# EAGLE library part USB_A_DOUBLE1 (library Dennistries-Josh)
USB A Double Socket USB A Double Height Socket
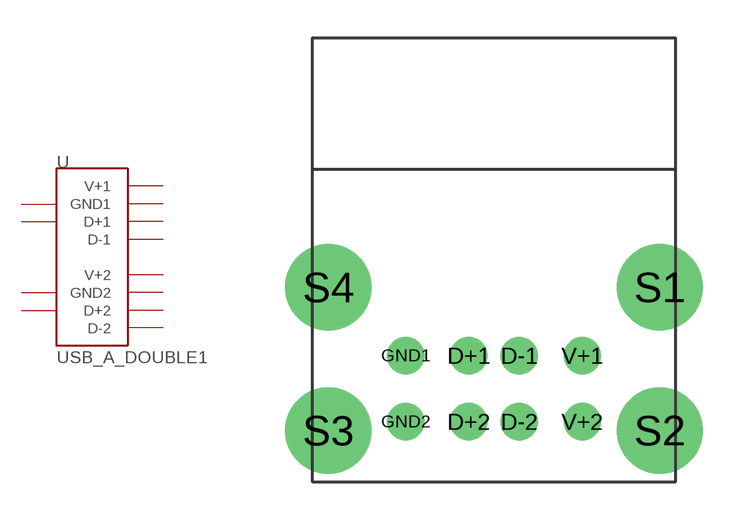
[diagram p10: symbol with the pads of USB_A_DOUBLE1; footprint USB_A_DOUBLE1]

Designator prefix -

## USB_A_DOUBLE1  [USB_A_DOUBLE1]
D+1  D+1
D+2  D+2
D-1  D-1
D-2  D-2
GND1  GND1
GND2  GND2
S1  P$1
S2  P$2
S3  P$3
S4  P$4
V+1  V+1
V+2  V+2

## Footprint USB_A_DOUBLE1 (pad centres in mm)
drill 0.97: D+1 -1,0; D+2 -1,-2.62; D-1 1,0; D-2 1,-2.62; GND1 -3.5,0; GND2 -3.5,-2.62; V+1 3.5,0; V+2 3.5,-2.62
drill 2.4: S1 6.57,2.71; S2 6.57,-2.97; S3 -6.57,-2.97; S4 -6.57,2.71